# EAGLE library part X9C104SZ (library Intersil_By_element14_Batch_1)
Digitally Controlled Potentiometer
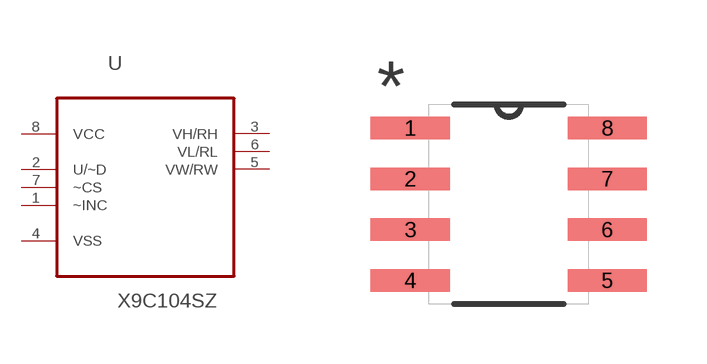
[diagram p243: symbol with the pads of SOIC127P600X175-8N; footprint SOIC127P600X175-8N]

Designator prefix U

## X9C104SZ (MPN: X9C104SZ; OC_FARNELL: 1216121; OC_NEWARK: 98K3483; PACKAGE: SOIC-8; SUPPLIER: Intersil)  [SOIC127P600X175-8N]
1  ~INC  in
2  U/~D  in
3  VH/RH  pas
4  VSS  pwr
5  VW/RW  pas
6  VL/RL  pas
7  ~CS  in
8  VCC  pwr

## Footprint SOIC127P600X175-8N (pad centres in mm)
smd 1.981 x 0.559: 1 -2.464,1.905; 2 -2.464,0.635; 3 -2.464,-0.635; 4 -2.464,-1.905; 5 2.464,-1.905; 6 2.464,-0.635; 7 2.464,0.635; 8 2.464,1.905